# Altium schematic symbol library DIP Switch.SchLib: 5 symbols
Pins are listed as number, name and electrical type; pins without a type are passive.

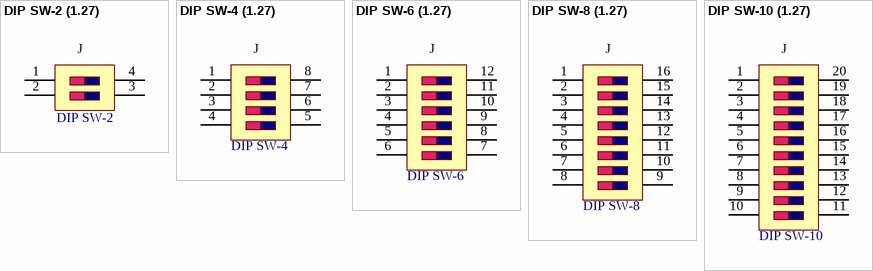
[diagram p0: symbols DIP SW-2 (1.27) to DIP SW-10 (1.27)]

## DIP SW-2 (1.27)
designator J  value DIP SW-2  (hidden comment: *)
Manufacturer: WURTH ELEKTRONIK; Manufacturer Code: 416131160802; Comments: 1.27mm pitch; Farnell Code: 1868000; Unit Price: 4,63 €; MOQ: 1
footprint DIP SW-2 (1.27) (Footprint not found)
pins: 1, 2, 3, 4

## DIP SW-4 (1.27)
designator J  value DIP SW-4  (hidden comment: *)
Manufacturer: WURTH ELEKTRONIK; Manufacturer Code: 416131160804; Comments: 1.27mm pitch; Farnell Code: 1868001; Unit Price: 5,38 €; MOQ: 1
footprint DIP SW-4 (1.27) (Footprint not found)
pins: 1, 2, 3, 4, 5, 6, 7, 8

## DIP SW-6 (1.27)
designator J  value DIP SW-6  (hidden comment: *)
Manufacturer: WURTH ELEKTRONIK; Manufacturer Code: 416131160806; Comments: 1.27mm pitch; Farnell Code: 1868002; Unit Price: 3,87 €; MOQ: 1
footprint DIP SW-6 (1.27) (Footprint not found)
pins: 1, 2, 3, 4, 5, 6, 7, 8, 9, 10, 11, 12

## DIP SW-8 (1.27)
designator J  value DIP SW-8  (hidden comment: *)
Manufacturer: WURTH ELEKTRONIK; Manufacturer Code: 416131160808; Comments: 1.27mm pitch; Farnell Code: 1868003; Unit Price: 6,22 €; MOQ: 1
footprint DIP SW-8 (1.27) (Footprint not found)
pins: 1, 2, 3, 4, 5, 6, 7, 8, 9, 10, 11, 12, 13, 14, 15, 16

## DIP SW-10 (1.27)
designator J  value DIP SW-10  (hidden comment: *)
Manufacturer: WURTH ELEKTRONIK; Manufacturer Code: 416131160810; Comments: 1.27mm pitch; Farnell Code: 1868004; Unit Price: 8,11 €; MOQ: 1
footprint DIP SW-10 (1.27) (Footprint not found)
pins: 1, 2, 3, 4, 5, 6, 7, 8, 9, 10, 11, 12, 13, 14, 15, 16, 17, 18, 19, 20